# Altium footprint library 3d_design_approx.PcbLib: 32 footprints (part 2 of 2)
Each footprint in its own frame and in the unit in brackets; x right, y up, seen from the top. Pads: shape width x height; smd on the part's side, far side on the other; paste and mask are expansions set on the pad; w line width, h text height; cw(c..) or ccw(c..) is an arc to the next point about the centre after c.
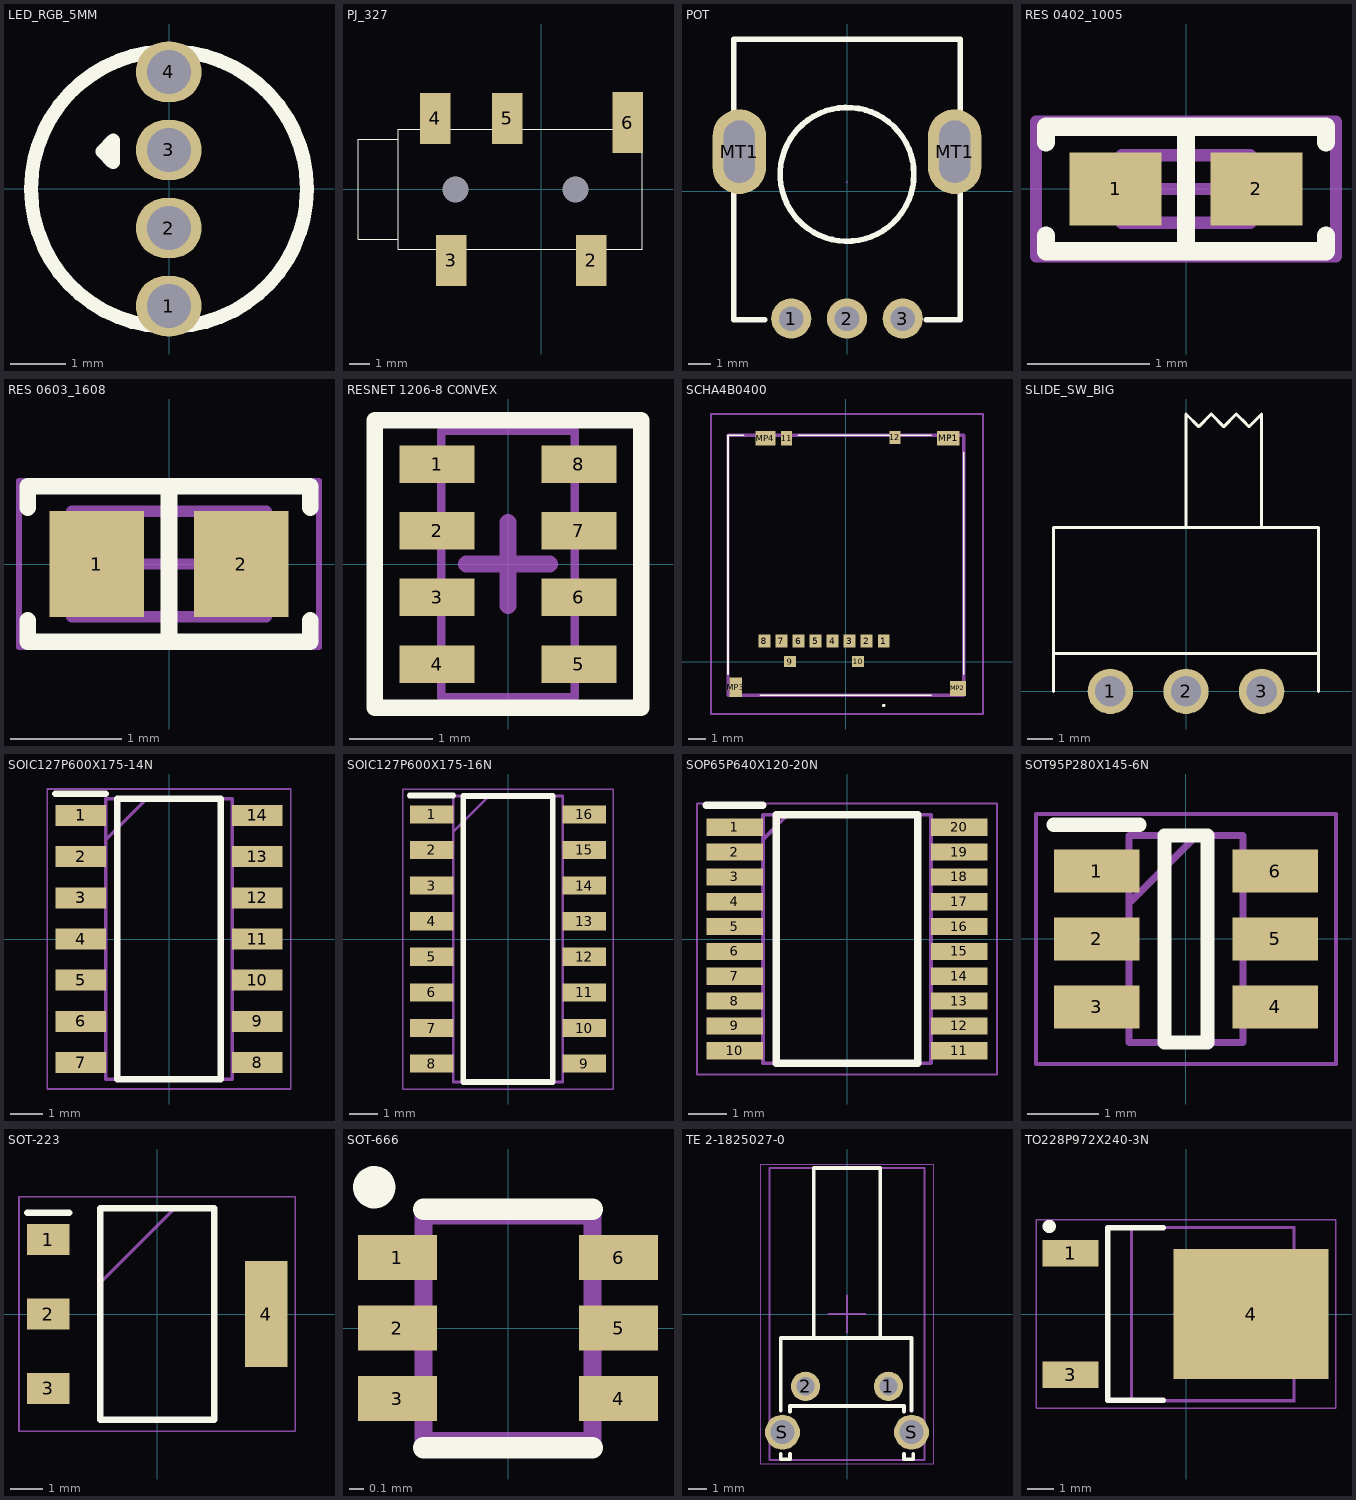
[diagram p1: the footprints below, top view; thin cyan lines are the x and y axes]

## LED_RGB_5MM [mm]
pads (4):
  oval 1.2x1.1 hole 0.8: 1(-0.003,-2.135) 2(-0.003,-0.712) 3(-0.003,0.71) 4(-0.003,2.132)
Top Overlay:
  circle w0.254: c0,0 r2.514
  lines w0.254: -1.216,0.686 -1.016,0.486 -1.016,0.886 -1.216,0.686

## PJ_327 [mil]
pads (7):
  rect 60x100 smd mask+3: 2(98.43,-139.76) 3(-177.17,-139.76) 4(-208.66,139.76) 5(-66.93,139.76)
  rect 60x120 smd mask+3: 6(170,131.34)
  round 0 hole 51 unplated mask+3: 257(-168.22,0) 258(68,0)
Top Overlay:
  lines w0.5: -281.5,-98.43 -360.24,-98.43 -360.24,98.43 -281.5,98.43 ; -281.5,-118.11 198.82,-118.11 198.82,118.11 -281.5,118.11 -281.5,-118.11
Mechanical 1:
  circle w0.5: c-168.22,0 r23.62
  circle w0.5: c68,0 r23.62
3D body "CUI_SJ-3524-SMT-TR.STEP": height 200.79, standoff -27.56, extent -374.01,-177.16 374.02,177.17

## POT [mm]
pads (5):
  round 1.8 hole 1.1: 1(-2.5,-5.704) 2(0,-5.704) 3(2.5,-5.704)
  oval 2.4x3.8 hole 1.4 slot 2.8 at 90 deg: MT1(-4.826,1.778) MT1(4.826,1.778)
Top Overlay:
  circle w0.254: c0,0.762 r3
  lines w0.127: 4.467,1.778 4.482,1.763
  lines w0.254: -5.08,0.209 -5.08,-5.76 -3.683,-5.76 ; -5.08,3.302 -5.08,6.813 5.08,6.813 5.08,3.302 ; 3.556,-5.76 5.08,-5.76 5.08,0.209
Mechanical 15:
  lines w0.003: -0.025,0.393 0.025,0.444
3D body "pot.SLDPRT": height 21.1, standoff -2.92, extent -5.636,-5.734 5.637,6.916

## RES 0402_1005 [mm]
pads (2):
  rect 0.75x0.6 smd: 1(-0.575,0) 2(0.575,0)
Top Overlay:
  lines w0.15: -1.143,-0.381 -1.143,-0.508 1.143,-0.508 1.143,-0.381 ; -1.143,0.381 -1.143,0.508 1.143,0.508 1.143,0.381 ; 0,-0.508 0,0.508
Mechanical 13:
  lines w0.1: -0.525,-0.275 0.525,-0.275 0.525,0.275 -0.525,0.275 -0.525,-0.275
Mechanical 15:
  lines w0.1: -0.275,0 0.275,0 ; 0,-0.275 0,0.275 ; -1.225,-0.55 1.225,-0.55 1.225,0.55 -1.225,0.55 -1.225,-0.55
3D body "0402 resistor.STEP": height 0.35, standoff 0, extent -0.5,-0.25 0.5,0.25

## RES 0603_1608 [mm]
pads (2):
  rect 0.85x0.95 smd: 1(-0.65,0) 2(0.65,0)
Top Overlay:
  lines w0.15: -1.27,-0.508 -1.27,-0.7 1.27,-0.7 1.27,-0.508 ; -1.27,0.508 -1.27,0.7 1.27,0.7 1.27,0.508 ; 0,-0.7 0,0.7
Mechanical 13:
  lines w0.1: -0.875,-0.475 -0.875,0.475 0.875,0.475 0.875,-0.475 -0.875,-0.475
Mechanical 15:
  lines w0.05: -1.35,-0.75 -1.35,0.75 1.35,0.75 1.35,-0.75 -1.35,-0.75
  lines w0.1: -0.475,0 0.475,0 ; 0,-0.475 0,0.475
3D body "0603 resistor.STEP": height 0.45, standoff 0, extent -0.8,-0.4 0.8,0.4

## RESNET 1206-8 CONVEX [mm]
pads (8):
  rect 0.9x0.45 smd: 1(-0.85,1.2) 2(-0.85,0.4) 3(-0.85,-0.4) 4(-0.85,-1.2) 5(0.85,-1.2) 6(0.85,-0.4) 7(0.85,0.4) 8(0.85,1.2)
Top Overlay:
  lines w0.2: -1.6,-1.725 -1.6,1.725 1.6,1.725 1.6,-1.725 -1.6,-1.725
Mechanical 13:
  lines w0.1: -0.8,-1.6 -0.8,1.6 0.8,1.6 0.8,-1.6 -0.8,-1.6
Mechanical 15:
  lines w0.05: -1.6,-1.8 -1.6,1.8 1.6,1.8 1.6,-1.8 -1.6,-1.8
  lines w0.2: -0.5,0 0.5,0 ; 0,-0.5 0,0.5
3D body "RESNET - 1206 Convex.step": height 0.71, standoff 0, extent -0.838,-1.625 0.837,1.625

## SCHA4B0400 [mm]
pads (16):
  rect 0.7x0.75 smd: 1(2.225,1.2) 2(1.225,1.2) 3(0.225,1.2) 4(-0.775,1.2) 5(-1.775,1.2) 6(-2.775,1.2) 7(-3.775,1.2) 8(-4.775,1.2)
  rect 0.7x0.65 smd: 9(-3.275,0) 10(0.725,0)
  rect 0.65x0.85 smd: 11(-3.475,13.1)
  rect 0.65x0.75 smd: 12(2.875,13.15)
  rect 1.3x0.85 smd: MP1(6.013,13.1)
  rect 0.95x0.9 smd: MP2(6.575,-1.575)
  rect 0.745x1.15 smd: MP3(-6.46,-1.5)
  rect 1.2x0.85 smd: MP4(-4.713,13.1)
Top Overlay:
  lines w0.1: -6.912,-0.725 -6.912,13.275 -6,13.275 ; -5,-1.975 5,-1.975 ; -2.775,13.275 5,13.275 ; 6.912,-0.725 6.912,12.275 ; 2.169,-2.575 ccw(c2.219,-2.575) 2.269,-2.575 ccw(c2.219,-2.575) 2.169,-2.575
Mechanical 13:
  lines w0.2: -6.912,-1.975 6.912,-1.975 6.912,13.275 -6.912,13.275 -6.912,-1.975
Mechanical 15:
  lines w0.1: -7.912,-3.075 8.05,-3.075 8.05,14.525 -7.912,14.525 -7.912,-3.075
3D body "SCHA4B0400.stp": height 1.39, standoff 0, extent -6.912,-2 6.96,13.46

## SLIDE_SW_BIG [mm]
pads (3):
  round 1.8 hole 1.2: 1(-3,0) 2(0,0) 3(3,0)
Top Overlay:
  lines w0.127: -5.25,0 -5.25,6.5 5.25,6.5 5.25,0 ; -5.25,1.5 5.25,1.5 ; 2.5,10.5 3,11 3,6.5 0,6.5 0,11 0.5,10.5 1,11 1.5,10.5 2,11 2.5,10.5 ; 2.5,10.5 2.25,10.75 2.5,10.5

## SOIC127P600X175-14N [mm]
pads (14):
  rect 1.55x0.65 smd: 1(-2.725,3.81) 2(-2.725,2.54) 3(-2.725,1.27) 4(-2.725,0) 5(-2.725,-1.27) 6(-2.725,-2.54) 7(-2.725,-3.81) 8(2.725,-3.81) 9(2.725,-2.54) 10(2.725,-1.27) 11(2.725,0) 12(2.725,1.27) 13(2.725,2.54) 14(2.725,3.81)
Top Overlay:
  lines w0.2: -3.5,4.485 -1.95,4.485 ; -1.6,-4.325 -1.6,4.325 1.6,4.325 1.6,-4.325 -1.6,-4.325
Mechanical 13:
  lines w0.1: -1.95,3.055 -0.68,4.325 ; -1.95,-4.325 -1.95,4.325 1.95,4.325 1.95,-4.325 -1.95,-4.325
Mechanical 15:
  lines w0.05: -3.75,-4.625 -3.75,4.625 3.75,4.625 3.75,-4.625 -3.75,-4.625
3D body "MC74VHC50DG.stp": height 1.75, standoff 0, extent -3,-4.325 3,4.325

## SOIC127P600X175-16N [mm]
pads (16):
  rect 1.55x0.65 smd: 1(-2.725,4.445) 2(-2.725,3.175) 3(-2.725,1.905) 4(-2.725,0.635) 5(-2.725,-0.635) 6(-2.725,-1.905) 7(-2.725,-3.175) 8(-2.725,-4.445) 9(2.725,-4.445) 10(2.725,-3.175) 11(2.725,-1.905) 12(2.725,-0.635) 13(2.725,0.635) 14(2.725,1.905) 15(2.725,3.175) 16(2.725,4.445)
Top Overlay:
  lines w0.2: -3.5,5.12 -1.95,5.12 ; -1.6,-5.1 1.6,-5.1 1.6,5.1 -1.6,5.1 -1.6,-5.1
Mechanical 13:
  lines w0.1: -1.95,3.83 -0.68,5.1 ; -1.95,-5.1 1.95,-5.1 1.95,5.1 -1.95,5.1 -1.95,-5.1
Mechanical 15:
  lines w0.05: -3.75,-5.35 3.75,-5.35 3.75,5.35 -3.75,5.35 -3.75,-5.35
3D body "74HC165D_BJ_.stp": height 1.75, standoff 0, extent -3,-5.1 3,5.1

## SOP65P640X120-20N [mm]
pads (20):
  rect 1.475x0.45 smd mask+0.102: 1(-2.938,2.925) 2(-2.938,2.275) 3(-2.938,1.625) 4(-2.938,0.975) 5(-2.938,0.325) 6(-2.938,-0.325) 7(-2.938,-0.975) 8(-2.938,-1.625) 9(-2.938,-2.275) 10(-2.938,-2.925) 11(2.938,-2.925) 12(2.938,-2.275) 13(2.938,-1.625) 14(2.938,-0.975) 15(2.938,-0.325) 16(2.938,0.325) 17(2.938,0.975) 18(2.938,1.625) 19(2.938,2.275) 20(2.938,2.925)
Top Overlay:
  lines w0.2: -3.675,3.5 -2.2,3.5 ; -1.85,-3.25 1.85,-3.25 1.85,3.25 -1.85,3.25 -1.85,-3.25
Mechanical 13:
  lines w0.1: -2.2,2.6 -1.55,3.25 ; -2.2,-3.25 2.2,-3.25 2.2,3.25 -2.2,3.25 -2.2,-3.25
Mechanical 15:
  lines w0.05: -3.925,-3.55 3.925,-3.55 3.925,3.55 -3.925,3.55 -3.925,-3.55
3D body "SN74HC245PWR.stp": height 1.13, standoff 0, extent -3.2,-3.25 3.2,3.25

## SOT95P280X145-6N [mm]
pads (6):
  rect 1.2x0.6 smd: 1(-1.25,0.95) 2(-1.25,0) 3(-1.25,-0.95) 4(1.25,-0.95) 5(1.25,0) 6(1.25,0.95)
Top Overlay:
  lines w0.2: -1.85,1.6 -0.65,1.6 ; -0.3,-1.45 -0.3,1.45 0.3,1.45 0.3,-1.45 -0.3,-1.45
Mechanical 13:
  lines w0.1: -0.8,0.5 0.15,1.45 ; -0.8,-1.45 -0.8,1.45 0.8,1.45 0.8,-1.45 -0.8,-1.45
Mechanical 15:
  lines w0.05: -2.1,-1.75 -2.1,1.75 2.1,1.75 2.1,-1.75 -2.1,-1.75
3D body "MT3608.stp": height 1.45, standoff 0, extent -1.4,-1.45 1.4,1.45

## SOT-223 [mm]
pads (4):
  rect 1.3x0.95 smd: 1(-3.35,2.29) 2(-3.35,0) 3(-3.35,-2.29)
  rect 1.3x3.25 smd: 4(3.35,0)
Top Overlay:
  lines w0.2: -4,3.115 -2.7,3.115 ; -1.752,-3.252 -1.752,3.252 1.752,3.252 1.752,-3.252 -1.752,-3.252
Mechanical 13:
  lines w0.1: -1.752,0.962 0.538,3.252 ; -1.752,-3.252 -1.752,3.252 1.752,3.252 1.752,-3.252 -1.752,-3.252
Mechanical 15:
  lines w0.05: -4.25,-3.605 -4.25,3.605 4.25,3.605 4.25,-3.605 -4.25,-3.605
3D body "ams1117-3.3v.stp": height 1.8, standoff 0, extent -3.5,-3.253 3.5,3.253

## SOT-666 [mm]
pads (6):
  rect 0.56x0.32 smd mask+0.025: 1(-0.785,0.5) 2(-0.785,0) 3(-0.785,-0.5) 4(0.785,-0.5) 5(0.785,0) 6(0.785,0.5)
Top Overlay:
  circle w0.2: c-0.95,1 r0.05
  lines w0.15: -0.6,-0.85 0.6,-0.85 ; -0.6,0.844 0.6,0.844
Mechanical 1:
  region: -0.853,0.625 -0.625,0.625 -0.625,0.376 -0.853,0.376
  region: -0.853,0.126 -0.626,0.126 -0.626,-0.126 -0.853,-0.126
  region: -0.853,-0.375 -0.626,-0.375 -0.626,-0.628 -0.853,-0.628
  region: 0.85,-0.627 0.628,-0.627 0.628,-0.375 0.85,-0.375
  region: 0.85,-0.125 0.628,-0.125 0.628,0.125 0.85,0.125
  region: 0.85,0.376 0.626,0.376 0.626,0.625 0.85,0.625
  lines w0.127: -0.6,-0.8 -0.6,0.8 0.6,0.8 0.6,-0.8 -0.6,-0.8
3D body: height 0.6, standoff 0, extent -0.6,-0.8 0.6,0.8

## TE 2-1825027-0 [mm]
pads (4):
  round 1.59 hole 0.99: 1(2.25,-3.931) 2(-2.25,-3.931)
  round 1.9 hole 1.3: S(-3.505,-6.421) S(3.505,-6.421)
Top Overlay:
  lines w0.2: -3.6,-7.6 -3.6,-7.9 -3.1,-7.9 -3.1,-7.6 ; -3.6,-5.25 -3.6,-1.3 3.5,-1.3 3.5,-5.25 ; -3.1,-5.3 -3.1,-5 3.1,-5 3.1,-5.3 ; -1.8,-1.3 -1.8,7.931 1.8,7.931 1.8,-1.3 ; 3.1,-7.6 3.1,-7.9 3.6,-7.9 3.6,-7.6
Mechanical 1:
  lines w0.1: -4.204,-7.931 4.204,-7.931 4.204,7.931 -4.204,7.931 -4.204,-7.931
Mechanical 15:
  lines w0.05: -4.7,-8.15 4.7,-8.15 4.7,8.15 -4.7,8.15 -4.7,-8.15
  lines w0.1: -1,0 0,0 ; 0,-1 0,0 ; 0,1 0,0 ; 1,0 0,0
3D body "TE - 2-1825027-0 v2.step": height 7.01, standoff -3.51, extent -4.204,-7.931 4.204,7.931

## TO228P972X240-3N [mm]
pads (3):
  rect 2.1x1 smd: 1(-4.35,2.28) 3(-4.35,-2.28)
  rect 5.85x4.9 smd: 4(2.45,0)
Top Overlay:
  circle w0.25: c-5.15,3.3 r0.125
  lines w0.2: -0.85,-3.25 -2.95,-3.25 -2.95,3.25 -0.85,3.25
Mechanical 13:
  lines w0.1: 4.062,-2.35 4.326,-2.35 4.863,-1.756 4.863,1.756 4.327,2.35 4.063,2.35 ; -2.037,-3.25 4.062,-3.25 4.062,3.25 -2.037,3.25 -2.037,-3.25
Mechanical 15:
  circle w0.05: c0,0 r0.35
  lines w0.001: -2.088,-3.3 4.112,-3.3 4.112,3.3 -2.088,3.3 -2.088,-3.3
  lines w0.05: -0.5,0 0.5,0 ; 0,-0.5 0,0.5 ; -5.65,-3.55 5.65,-3.55 5.65,3.55 -5.65,3.55 -5.65,-3.55
3D body "LD1117DT33TR.stp": height 2.3, standoff 0, extent -4.966,-3.3 4.56,3.3